# Altium footprint library DMESC.PcbLib: 14 footprints
Each footprint in its own frame and in the unit in brackets; x right, y up, seen from the top. Pads: shape width x height; smd on the part's side, far side on the other; paste and mask are expansions set on the pad; w line width, h text height; cw(c..) or ccw(c..) is an arc to the next point about the centre after c.
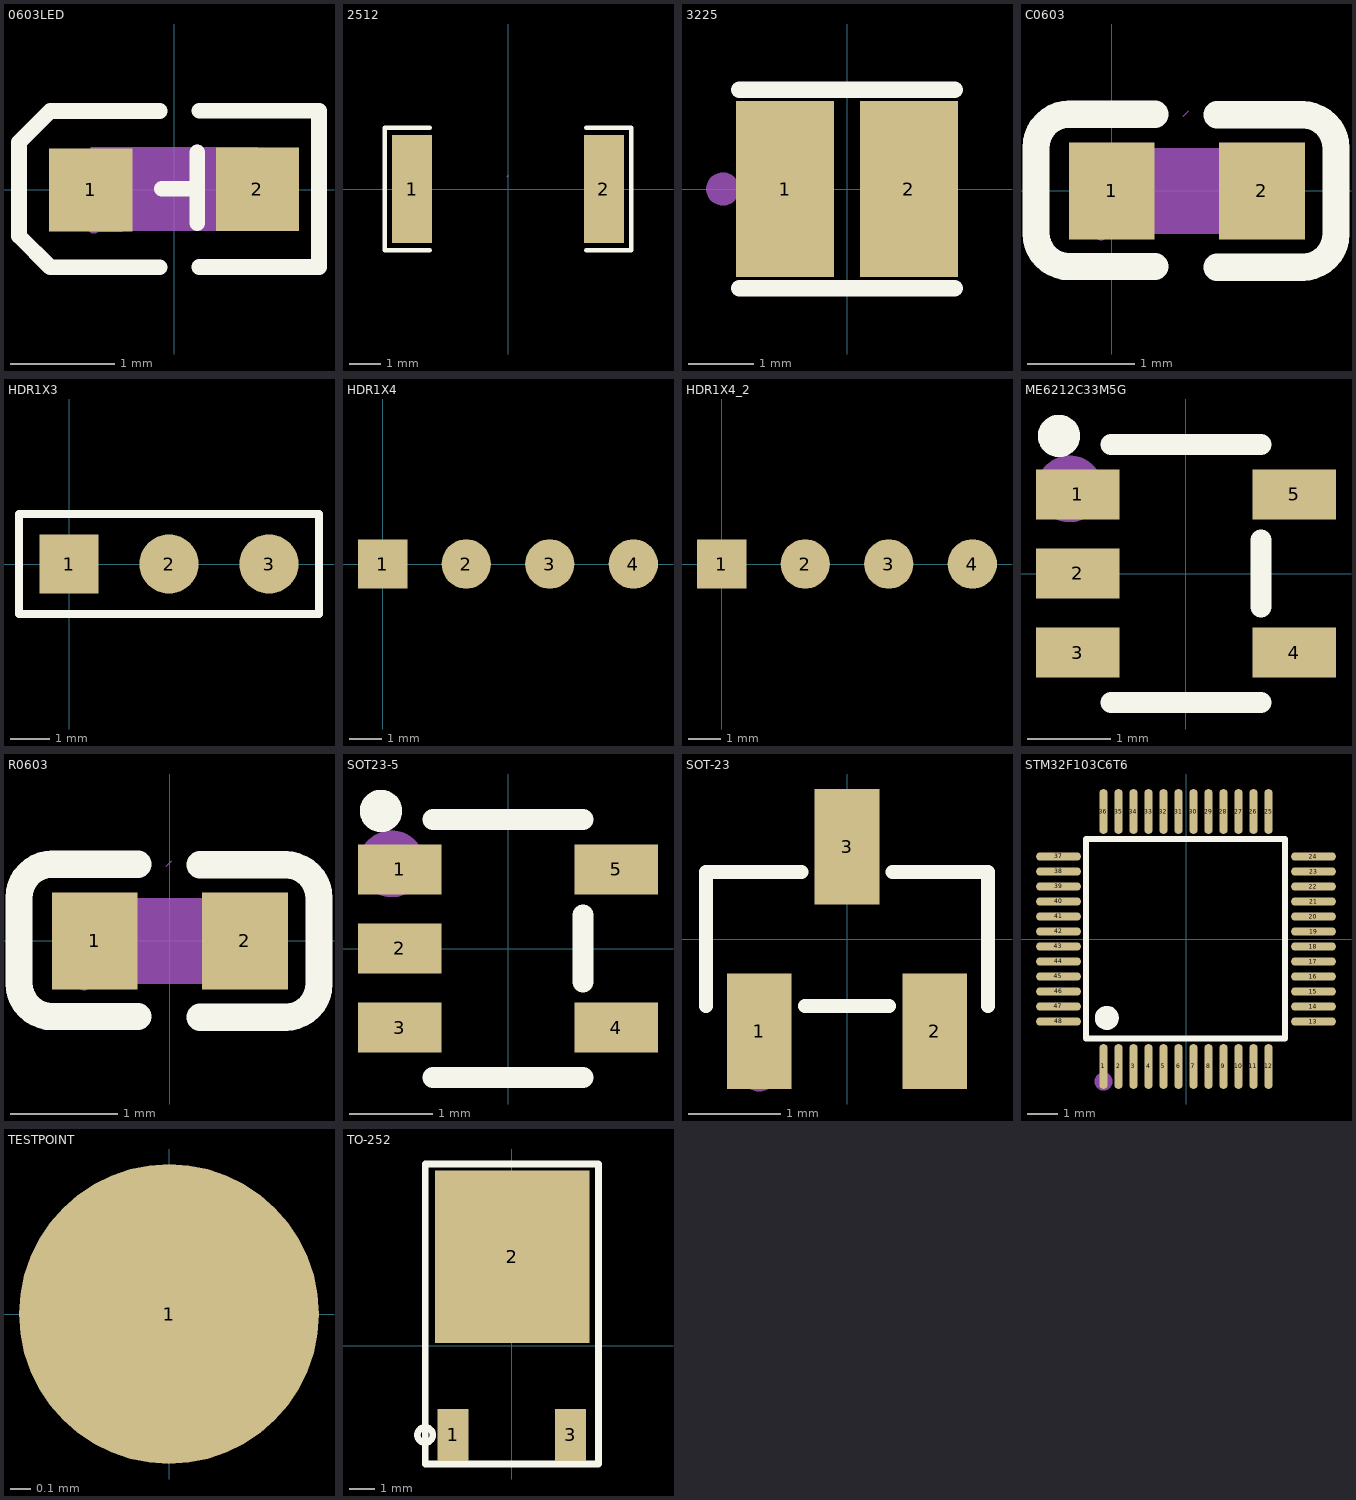
[diagram p0: the footprints below, top view; thin cyan lines are the x and y axes]

## 0603LED [mm]
pads (2):
  rect 0.8x0.8 smd: 1(-0.799,-0.004) 2(0.799,0.004)
Top Overlay:
  lines w0.15: -0.14,-0.746 -1.19,-0.746 -1.49,-0.446 -1.49,-0.346 -1.49,0.354 -1.49,0.454 -1.19,0.754 -0.14,0.754 ; -0.12,0.007 0.22,0.007 ; 0.22,-0.324 0.22,0.356 ; 0.24,-0.744 1.39,-0.744 ; 0.24,0.757 1.39,0.757 1.39,-0.723
Mechanical 4:
  region: -0.8,-0.393 -0.8,0.407 0.8,0.407 0.8,-0.393
Mechanical 5:
  region: 0.5,-0.396 0.5,0.404 0.8,0.404 0.8,-0.396
  region: -0.8,-0.404 -0.8,0.396 -0.5,0.396 -0.5,-0.404
Mechanical 6:
  circle w0.06: c-0.77,-0.364 r0.03
Mechanical 15:
  region: 0.529,0.068 1.069,0.068 1.069,-0.062 0.529,-0.062
  region: 0.735,-0.267 0.735,0.273 0.865,0.273 0.865,-0.267
  region: -1.07,0.061 -0.53,0.061 -0.53,-0.069 -1.07,-0.069
  lines w0.15: -0.12,0.01 0.22,0.01 ; 0.221,-0.324 0.221,0.356
3D body "User Library-LED SMD0603.STEP": height 0.68, standoff 0, extent -0.817,-0.357 0.833,0.368

## 2512 [mm]
pads (2):
  rect 1.283x3.456 smd: 1(-3.066,0) 2(3.066,0)
Top Overlay:
  lines w0.152: -2.501,-1.957 -3.936,-1.957 -3.936,1.957 -2.501,1.957 ; 2.501,-1.957 3.936,-1.957 3.936,1.957 2.501,1.957
Top Paste:
  region: -2.425,-1.628 -2.425,-0.688 -2.525,-0.588 -2.761,-0.588 -2.861,-0.488 -2.861,0.488 -2.761,0.588 -2.525,0.588 -2.425,0.688 -2.425,1.628 -2.525,1.728 -3.608,1.728 -3.708,1.628 -3.708,-1.628 -3.608,-1.728 -2.525,-1.728
  region: 2.425,-1.628 2.425,-0.688 2.525,-0.588 2.761,-0.588 2.861,-0.488 2.861,0.488 2.761,0.588 2.525,0.588 2.425,0.688 2.425,1.628 2.525,1.728 3.608,1.728 3.708,1.628 3.708,-1.628 3.608,-1.728 2.525,-1.728
Mechanical 15:
  lines w0.003: -0.025,0.387 0.025,0.438
3D body "User Library-2512 SMD Resistor.STEP": height 1.6, standoff 0, extent -3.175,-1.5 3.175,1.5

## 3225 [mm]
pads (2):
  rect 1.5x2.7 smd: 1(-0.95,0) 2(0.95,0)
Top Overlay:
  lines w0.254: -1.651,-1.524 1.651,-1.524 ; -1.651,1.524 1.651,1.524
Mechanical 15:
  circle w0.254: c-1.905,0 r0.127
3D body: height 1, standoff 0, extent -1.531,-1.222 1.531,1.222

## C0603 [mm]
pads (2):
  rect 0.8x0.9 smd: 1(0,0) 2(1.4,0)
Top Overlay:
  lines w0.254: 0.404,-0.704 -0.396,-0.704 cw(c-0.396,-0.394) -0.706,-0.394 -0.706,0.406 cw(c-0.396,0.406) -0.396,0.715 0.404,0.715 ; 0.98,-0.71 1.78,-0.71 ccw(c1.78,-0.4) 2.09,-0.4 2.09,0.4 ccw(c1.78,0.4) 1.78,0.71 0.98,0.71
Top Paste:
  region: 0.385,-0.138 0.385,0.138 -0.018,0.432 -0.314,0.432 -0.378,0.368 -0.378,-0.368 -0.314,-0.432 -0.018,-0.432
  region: 1.015,-0.138 1.015,0.138 1.418,0.432 1.714,0.432 1.778,0.368 1.778,-0.368 1.714,-0.432 1.418,-0.432
Mechanical 4:
  region: -0.1,-0.4 -0.1,0.4 1.5,0.4 1.5,-0.4
Mechanical 5:
  region: 1.5,-0.4 1.5,0.4 1.2,0.4 1.2,-0.4
  region: -0.1,-0.4 -0.1,0.4 0.2,0.4 0.2,-0.4
Mechanical 6:
  circle w0.06: c-0.1,-0.4 r0.03
Mechanical 15:
  lines w0.003: 0.667,0.696 0.718,0.747
3D body "User Library-Chip Cap_MLCC_0603 (1608).STEP": height 0.5, standoff 0, extent -0.1,-0.4 1.5,0.4
3D body: height 10, standoff -2.54, extent -0.418,1.041 -0.418,1.041

## HDR1X3 [mm] "Connector; Header; 3 Position"
pads (3):
  rect 1.5x1.5 smd: 1(0,0)
  round 1.5 smd: 2(2.54,0) 3(5.08,0)
Top Overlay:
  lines w0.2: -1.27,-1.27 6.35,-1.27 6.35,1.27 -1.27,1.27 -1.27,-1.27

## HDR1X4 [mm] "Connector; Header; 4 Position"
pads (4):
  rect 1.5x1.5 smd: 1(0,0)
  round 1.5 smd: 2(2.54,0) 3(5.08,0) 4(7.62,0)

## HDR1X4_2 [mm]
pads (4):
  rect 1.5x1.5 smd: 1(0,0)
  round 1.5 smd: 2(2.54,0) 3(5.08,0) 4(7.62,0)

## ME6212C33M5G [mm]
pads (5):
  rect 1x0.6 smd: 1(-1.3,0.95) 2(-1.3,0) 3(-1.3,-0.95) 4(1.3,-0.95) 5(1.3,0.95)
Top Overlay:
  circle w0.254: c-1.524,1.651 r0.127
  lines w0.254: -0.9,-1.55 0.9,-1.55 ; -0.9,1.55 0.9,1.55 ; 0.9,-0.4 0.9,0.4
Mechanical 15:
  circle w0.4: c-1.397,1.016 r0.2
3D body "SOT-23-5.STEP": height 1.2, standoff 0, extent -1.4,-1.45 1.4,1.45

## R0603 [mm]
pads (2):
  rect 0.8x0.9 smd: 1(-0.7,0) 2(0.7,0)
Top Overlay:
  lines w0.254: -0.296,-0.704 -1.096,-0.704 cw(c-1.096,-0.394) -1.406,-0.394 -1.405,0.406 cw(c-1.096,0.406) -1.096,0.715 -0.296,0.715 ; 0.28,-0.71 1.08,-0.71 ccw(c1.08,-0.4) 1.39,-0.4 1.39,0.4 ccw(c1.08,0.4) 1.08,0.71 0.28,0.71
Top Paste:
  region: 0.315,-0.138 0.315,0.138 0.718,0.432 1.014,0.432 1.078,0.368 1.078,-0.368 1.014,-0.432 0.718,-0.432
  region: -0.315,-0.138 -0.315,0.138 -0.718,0.432 -1.014,0.432 -1.078,0.368 -1.078,-0.368 -1.014,-0.432 -0.718,-0.432
Mechanical 4:
  region: -0.8,-0.4 -0.8,0.4 0.8,0.4 0.8,-0.4
Mechanical 5:
  region: -0.8,-0.4 -0.8,0.4 -0.5,0.4 -0.5,-0.4
  region: 0.8,-0.4 0.8,0.4 0.5,0.4 0.5,-0.4
Mechanical 6:
  circle w0.06: c-0.8,-0.4 r0.03
Mechanical 15:
  lines w0.003: -0.033,0.696 0.018,0.747
3D body "R0603.STEP": height 0.45, standoff 0, extent -0.8,-0.4 0.8,0.4

## SOT23-5 [mm]
pads (5):
  rect 1x0.6 smd: 1(-1.3,0.95) 2(-1.3,0) 3(-1.3,-0.95) 4(1.3,-0.95) 5(1.3,0.95)
Top Overlay:
  circle w0.254: c-1.524,1.651 r0.127
  lines w0.254: -0.9,-1.55 0.9,-1.55 ; -0.9,1.55 0.9,1.55 ; 0.9,-0.4 0.9,0.4
Mechanical 15:
  circle w0.4: c-1.397,1.016 r0.2
3D body "SOT-23-5.STEP": height 1.2, standoff 0, extent -1.4,-1.45 1.4,1.45

## SOT-23 [mm]
pads (3):
  rect 0.7x1.25 smd: 1(-0.95,-1) 2(0.95,-1) 3(0,1)
Top Overlay:
  lines w0.152: -1.526,-0.726 -1.526,0.726 -0.495,0.726 ; -0.455,-0.726 0.455,-0.726 ; 0.495,0.726 1.526,0.726 1.526,-0.726
Mechanical 15:
  circle w0.2: c-0.95,-1.45 r0.1
3D body "SOT-23-3.STEP": height 1.2, standoff 0, extent -1.45,-1.4 1.45,1.4

## STM32F103C6T6 [mm]
pads (48):
  oval 0.27x1.5 smd: 1(-2.75,-4.25) 2(-2.25,-4.25) 3(-1.75,-4.25) 4(-1.25,-4.25) 5(-0.75,-4.25) 6(-0.25,-4.25) 7(0.25,-4.25) 8(0.75,-4.25) 9(1.25,-4.25) 10(1.75,-4.25) 11(2.25,-4.25) 12(2.75,-4.25) 25(2.75,4.25) 26(2.25,4.25) 27(1.75,4.25) 28(1.25,4.25) 29(0.75,4.25) 30(0.25,4.25) 31(-0.25,4.25) 32(-0.75,4.25) 33(-1.25,4.25) 34(-1.75,4.25) 35(-2.25,4.25) 36(-2.75,4.25)
  oval 1.5x0.27 smd: 13(4.25,-2.75) 14(4.25,-2.25) 15(4.25,-1.75) 16(4.25,-1.25) 17(4.25,-0.75) 18(4.25,-0.25) 19(4.25,0.25) 20(4.25,0.75) 21(4.25,1.25) 22(4.25,1.75) 23(4.25,2.25) 24(4.25,2.75) 37(-4.25,2.75) 38(-4.25,2.25) 39(-4.25,1.75) 40(-4.25,1.25) 41(-4.25,0.75) 42(-4.25,0.25) 43(-4.25,-0.25) 44(-4.25,-0.75) 45(-4.25,-1.25) 46(-4.25,-1.75) 47(-4.25,-2.25) 48(-4.25,-2.75)
Top Overlay:
  lines w0.2: -2.896,3.34 3.302,3.34 3.302,-3.315 -3.327,-3.315 -3.327,3.34 -2.565,3.34
  lines w0.4: -2.641,-2.43 ccw(c-2.64,-2.63) -2.639,-2.43
Mechanical 15:
  circle w0.3: c-2.75,-4.75 r0.15
3D body "User Library-LQFP48.STEP": height 1.5, standoff 0, extent -4.5,-4.5 4.5,4.5

## TESTPOINT [mm]
pads (1):
  round 1.5 smd: 1(0,0)

## TO-252 [mm]
pads (3):
  rect 1.2x2 smd: 1(-2.28,-3.457) 3(2.28,-3.457)
  rect 6x6.7 smd: 2(0.02,3.457)
Top Overlay:
  circle w0.254: c-3.365,-3.457 r0.3
  lines w0.254: -3.365,-4.583 3.365,-4.583 3.365,7.058 -3.365,7.058 -3.365,2.783 -3.365,-4.583
3D body "User Library-DPAK_TO-252AA.STEP": height 2.37, standoff -0.03, extent -3.367,-3.787 3.367,6.313